# Altium schematic symbol library LTC3400.SchLib: 1 symbol
Pins are listed as number, name and electrical type; pins without a type are passive.

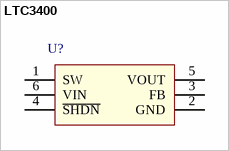
[diagram p0: symbol LTC3400]

## LTC3400
designator U?  (value not drawn)
pins: 1 SW, 2 GND (power), 3 FB, 4 ~{SHDN}, 5 VOUT, 6 VIN